# Altium schematic symbol library mb1045.SCHLIB: 70 symbols
Pins are listed as number, name and electrical type; pins without a type are passive.

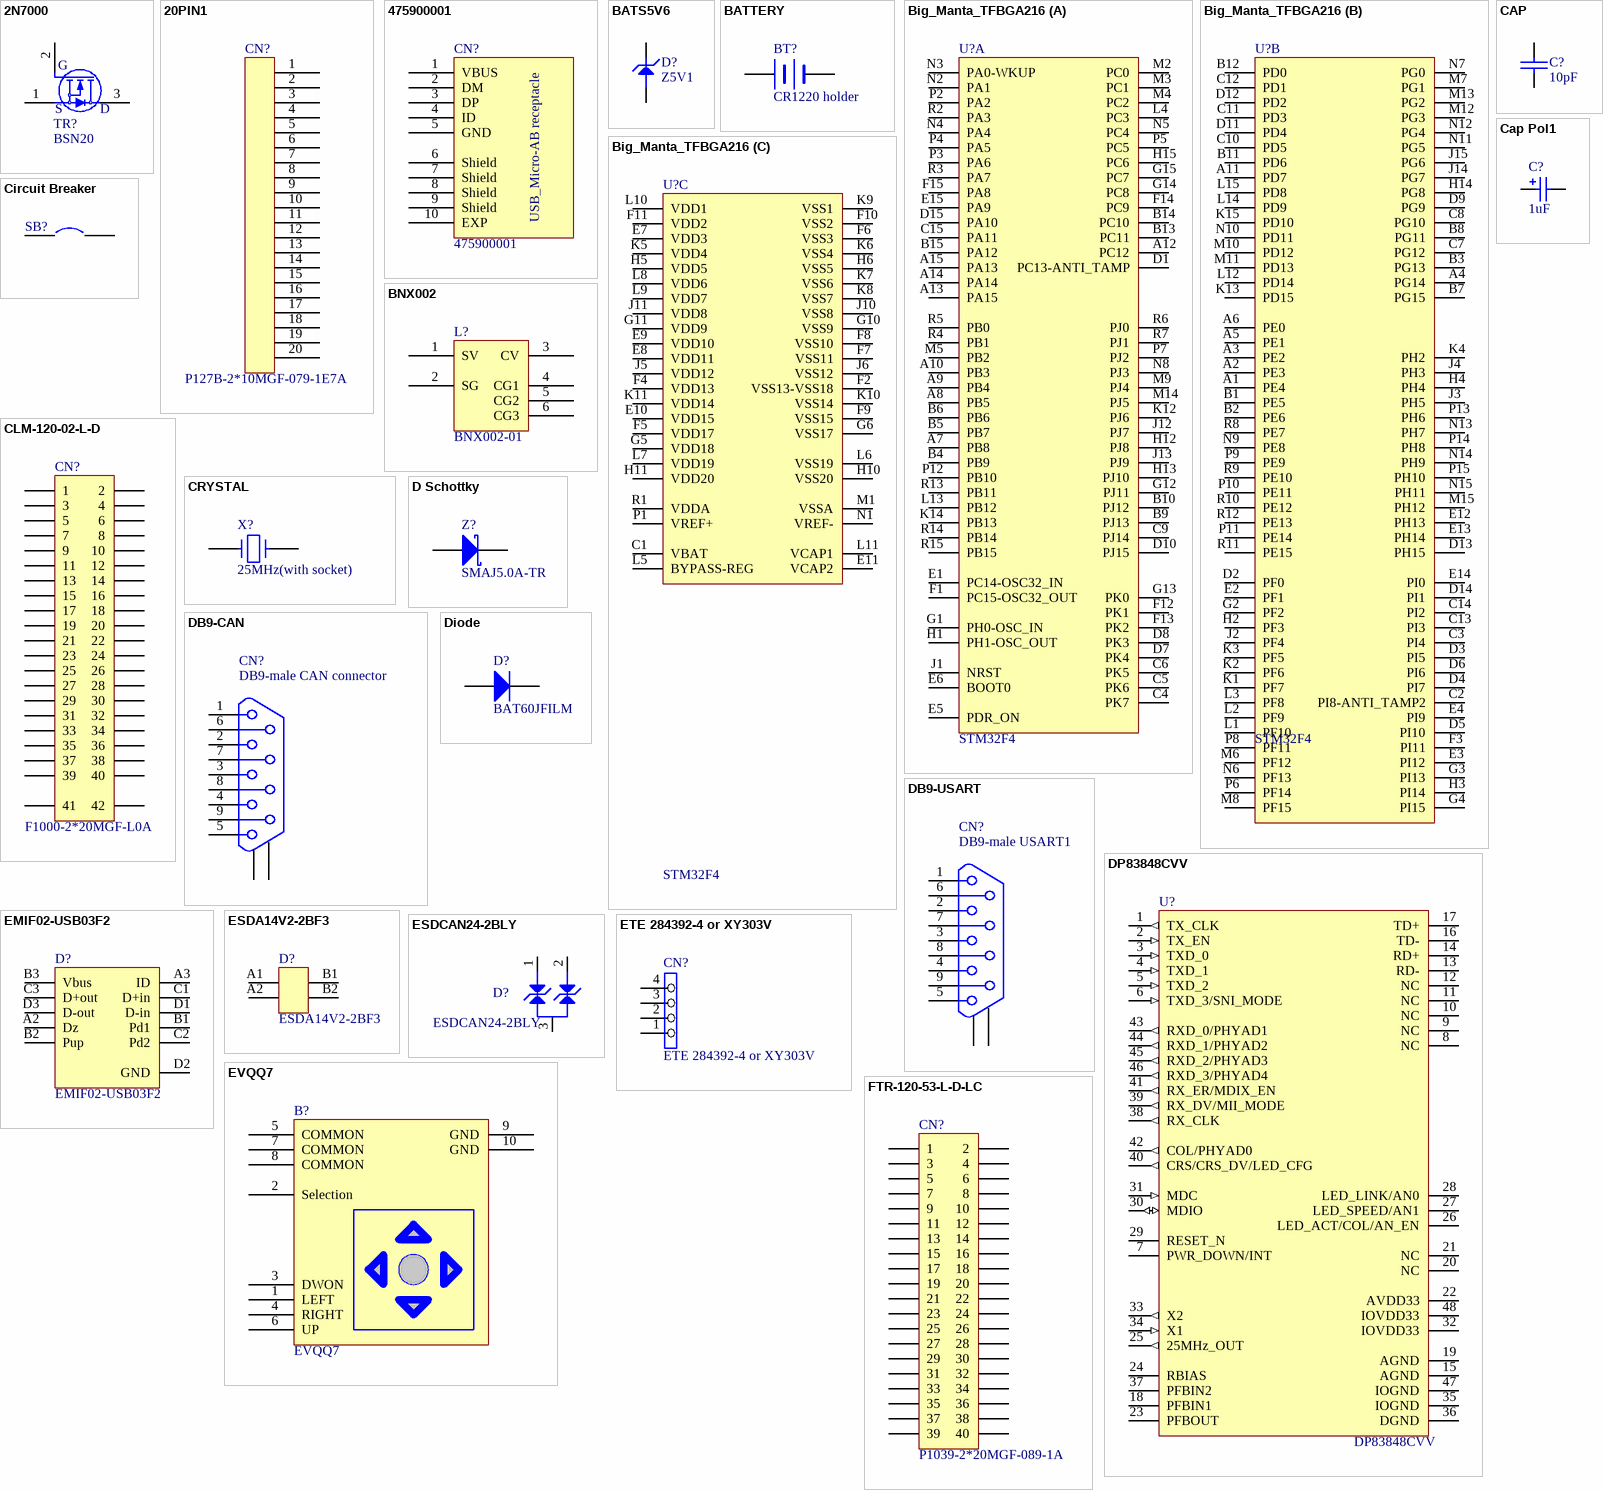
[diagram p0: symbols 2N7000 to FTR-120-53-L-D-LC]

## 2N7000
designator TR?, comment BSN20
footprint SOT23-3L (Footprint not found)
footprint SOT23-213 (Footprint not found)
pins: 1 S, 2 G, 3 D

## 20PIN1
designator CN?, comment P127B-2*10MGF-079-1E7A
footprint IDC20L (Footprint not found)
footprint IDC20S
footprint FTSH-110-01-L-DV
pins: 1, 2, 3, 4, 5, 6, 7, 8, 9, 10, 11, 12, 13, 14, 15, 16, 17, 18, 19, 20
2 alternate drawings of the same symbol

## 475900001
designator CN?
footprint Model Name (Footprint not found)
footprint MOLEX_47590001 (Footprint not found)
pins: 1 VBUS, 2 DM, 3 DP, 4 ID, 5 GND, 6 Shield, 7 Shield, 8 Shield, 9 Shield, 10 EXP
text: USB_Micro-AB receptacle

## BATS5V6
designator D?, comment Z5V1
footprint SOT-23
footprint SOT23-213 (Footprint not found)
pins: 2, 3

## BATTERY
designator BT?, comment CR1220 holder
Battery
footprint BATT (Footprint not found)
footprint LI1220_1
footprint BAT_2SM_CR1220 (Footprint not found)
pins: 1 +, 2 -
2 alternate drawings of the same symbol

## Big_Manta_TFBGA216
designator U?, comment STM32F4
footprint BGA216_0R8_13X13 (Footprint not found)
footprint BGA216_0R8_13X13_SKT (Footprint not found)
part A pins: A7 PB8, A8 PB5, A9 PB4, A10 PB3, A12 PC12, A13 PA15, A14 PA14, A15 PA13, B4 PB9, B5 PB7, B6 PB6, B9 PJ13, B10 PJ12, B13 PC11, B14 PC10, B15 PA12, C4 PK7, C5 PK6, C6 PK5, C9 PJ14, C15 PA11, D1 PC13-ANTI_TAMP, D7 PK4, D8 PK3, D10 PJ15, D15 PA10, E1 PC14-OSC32_IN, E5 PDR_ON, E6 BOOT0, E15 PA9, F1 PC15-OSC32_OUT, F12 PK1, F13 PK2, F14 PC9, F15 PA8, G1 PH0-OSC_IN, G12 PJ11, G13 PK0, G14 PC8, G15 PC7, H1 PH1-OSC_OUT, H12 PJ8, H13 PJ10, H15 PC6, J1 NRST, J12 PJ7, J13 PJ9, K12 PJ6, K14 PB13, L4 PC3, L13 PB12, M2 PC0, M3 PC1, M4 PC2, M5 PB2, M9 PJ4, M14 PJ5, N2 PA1, N3 PA0-WKUP, N4 PA4, N5 PC4, N8 PJ3, P2 PA2, P3 PA6, P4 PA5, P5 PC5, P7 PJ2, P12 PB10, R2 PA3, R3 PA7, R4 PB1, R5 PB0, R6 PJ0, R7 PJ1, R13 PB11, R14 PB14, R15 PB15
part B pins: A1 PE4, A2 PE3, A3 PE2, A4 PG14, A5 PE1, A6 PE0, A11 PD7, B1 PE5, B2 PE6, B3 PG13, B7 PG15, B8 PG11, B11 PD6, B12 PD0, C2 PI8-ANTI_TAMP2, C3 PI4, C7 PG12, C8 PG10, C10 PD5, C11 PD3, C12 PD1, C13 PI3, C14 PI2, D2 PF0, D3 PI5, D4 PI7, D5 PI10, D6 PI6, D9 PG9, D11 PD4, D12 PD2, D13 PH15, D14 PI1, E2 PF1, E3 PI12, E4 PI9, E12 PH13, E13 PH14, E14 PI0, F3 PI11, G2 PF2, G3 PI13, G4 PI15, H2 PF3, H3 PI14, H4 PH4, H14 PG8, J2 PF4, J3 PH5, J4 PH3, J14 PG7, J15 PG6, K1 PF7, K2 PF6, K3 PF5, K4 PH2, K13 PD15, K15 PD10, L1 PF10, L2 PF9, L3 PF8, L12 PD14, L14 PD9, L15 PD8, M6 PF12, M7 PG1, M8 PF15, M10 PD12, M11 PD13, M12 PG3, M13 PG2, M15 PH12, N6 PF13, N7 PG0, N9 PE8, N10 PD11, N11 PG5, N12 PG4, N13 PH7, N14 PH9, N15 PH11, P6 PF14, P8 PF11, P9 PE9, P10 PE11, P11 PE14, P13 PH6, P14 PH8, P15 PH10, R8 PE7, R9 PE10, R10 PE12, R11 PE15, R12 PE13
part C pins: C1 VBAT, E7 VDD3, E8 VDD11, E9 VDD10, E10 VDD15, E11 VCAP2, F2 VSS13-VSS18, F4 VDD13, F5 VDD17, F6 VSS3, F7 VSS11, F8 VSS10, F9 VSS15, F10 VSS2, F11 VDD2, G5 VDD18, G6 VSS17, G10 VSS9, G11 VDD9, H5 VDD5, H6 VSS5, H10 VSS20, H11 VDD20, J5 VDD12, J6 VSS12, J10 VSS8, J11 VDD8, K5 VDD4, K6 VSS4, K7 VSS6, K8 VSS7, K9 VSS1, K10 VSS14, K11 VDD14, L5 BYPASS-REG, L6 VSS19, L7 VDD19, L8 VDD6, L9 VDD7, L10 VDD1, L11 VCAP1, M1 VSSA, N1 VREF-, P1 VREF+, R1 VDDA
2 alternate drawings of the same symbol

## BNX002
designator L?, comment BNX002-01
footprint BNX001 (Footprint not found)
pins: 1 SV, 2 SG, 3 CV, 4 CG1, 5 CG2, 6 CG3

## CAP
designator C?, comment 10pF
Capacitor
footprint 0603 (Footprint not found)
footprint 0603C
pins: 1, 2

## Cap Pol1
designator C?, comment 1uF
Polarized Capacitor (Radial); Value: 10uF; Published: 8-Jun-2000; Revision: July-2002: Re-released for DXP Platform.; Publisher: Altium Limited
simulation model CAP (Capacitor)
signal-integrity model Cap Pol
footprint 3528 (Footprint not found)
footprint TAN-B
footprint TAN-A
pins: 1, 2

## Circuit Breaker
designator SB?
Circuit Breaker; Published: 24-Mar-1999; Revision: July-2002: Re-released for DXP Platform.; Publisher: Altium Limited
footprint SPST-2 (Circuit Breaker; 2 Leads)
footprint JP2_SMD
pins: 1, 2

## CLM-120-02-L-D
designator CN?, comment F1000-2*20MGF-L0A
Header, 20-Pin, Dual row; Revision: 17-Jul-2002: Re-released for DXP Platform.; Publisher: Altium Limited
footprint HDR2X20 (Connector; Header; 20x2 Position)
signal-integrity model Connector
footprint CLM-120-02-L-D
pins: 1, 2, 3, 4, 5, 6, 7, 8, 9, 10, 11, 12, 13, 14, 15, 16, 17, 18, 19, 20, 21, 22, 23, 24, 25, 26, 27, 28, 29, 30, 31, 32, 33, 34, 35, 36, 37, 38, 39, 40, 41, 42

## CRYSTAL
designator X?, comment 25MHz(with socket)
Crystal
footprint XTAL1 (Footprint not found)
footprint XTAL_socket
pins: 1, 2
2 alternate drawings of the same symbol

## D Schottky
designator Z?, comment SMAJ5.0A-TR
Schottky Diode; Code - JEDEC: DO-214-AA; Published: 8-Jun-2000; Revision: July-2002: Re-released for DXP Platform.; Publisher: Altium Limited
footprint 1R1C (Footprint not found)
footprint sma (Footprint not found)
pins: 1 A, 2 K

## DB9-CAN
designator CN?, comment DB9-male CAN connector
footprint DB9/M (Footprint not found)
pins: 1, 2, 3, 4, 5, 6, 7, 8, 9, 10, 11
2 alternate drawings of the same symbol

## DB9-USART
designator CN?, comment DB9-male USART1
footprint DB9/M (Footprint not found)
pins: 1, 2, 3, 4, 5, 6, 7, 8, 9, 10, 11
2 alternate drawings of the same symbol

## Diode
designator D?, comment BAT60JFILM
Default Diode; Code - JEDEC: DO-214-AB; Published: 8-Jun-2000; Revision: July-2002: Re-released for DXP Platform.; Publisher: Altium Limited
footprint DSO-C2/X3.3 (DO-214-AB/SMC; 2 C-Bend Leads; Body 7.9 x 5.9 mm, inc. leads (LxW))
simulation model DIODE (Diode)
signal-integrity model Diode
footprint SOD-323 (Footprint not found)
pins: 1 A, 2 K

## DP83848CVV
designator U?
footprint LQFP48 (Footprint not found)
footprint LQFP48_0R5_9X9 (Footprint not found)
pins: 1 TX_CLK (out), 2 TX_EN (in), 3 TXD_0 (in), 4 TXD_1 (in), 5 TXD_2 (in), 6 TXD_3/SNI_MODE (in), 7 PWR_DOWN/INT, 8 NC, 9 NC, 10 NC, 11 NC, 12 NC, 13 RD-, 14 RD+, 15 AGND, 16 TD-, 17 TD+, 18 PFBIN1, 19 AGND, 20 NC, 21 NC, 22 AVDD33, 23 PFBOUT, 24 RBIAS, 25 25MHz_OUT (out), 26 LED_ACT/COL/AN_EN, 27 LED_SPEED/AN1, 28 LED_LINK/AN0, 29 RESET_N, 30 MDIO (io), 31 MDC (in), 32 IOVDD33, 33 X2 (out), 34 X1 (in), 35 IOGND, 36 DGND, 37 PFBIN2, 38 RX_CLK (out), 39 RX_DV/MII_MODE (out), 40 CRS/CRS_DV/LED_CFG (out), 41 RX_ER/MDIX_EN (out), 42 COL/PHYAD0 (out), 43 RXD_0/PHYAD1 (out), 44 RXD_1/PHYAD2 (out), 45 RXD_2/PHYAD3 (out), 46 RXD_3/PHYAD4 (out), 47 IOGND, 48 IOVDD33

## EMIF02-USB03F2
designator D?
footprint Flip Chip (Footprint not found)
footprint FlipChip(11)
footprint BGA11_0R5_1R57X2R07 (Footprint not found)
pins: A2 Dz, A3 ID, B1 Pd1, B2 Pup, B3 Vbus, C1 D+in, C2 Pd2, C3 D+out, D1 D-in, D2 GND, D3 D-out

## ESDA14V2-2BF3
designator D?
footprint BGA4_0R4_0R8X0R8 (Footprint not found)
pins: A1, A2, B1, B2

## ESDCAN24-2BLY
designator D?
footprint SOT-23
footprint SOT23-213 (Footprint not found)
pins: 1, 2, 3

## ETE 284392-4 or XY303V
designator CN?
ETE 284392-4
footprint SIP4 3.81mm pitch (Footprint not found)
footprint BUCHANAN_284392-4 (Footprint not found)
pins: 1, 2, 3, 4

## EVQQ7
designator B?
footprint SW-JOY (Footprint not found)
pins: 1 LEFT, 2 Selection, 3 DWON, 4 RIGHT, 5 COMMON, 6 UP, 7 COMMON, 8 COMMON, 9 GND, 10 GND

## FTR-120-53-L-D-LC
designator CN?, comment P1039-2*20MGF-089-1A
Header, 20-Pin, Dual row; Revision: 17-Jul-2002: Re-released for DXP Platform.; Publisher: Altium Limited
footprint HDR2X20 (Connector; Header; 20x2 Position)
signal-integrity model Connector
footprint CLM-120-02-L-D
footprint FTR-120-53-L-D-LC (Footprint not found)
pins: 1, 2, 3, 4, 5, 6, 7, 8, 9, 10, 11, 12, 13, 14, 15, 16, 17, 18, 19, 20, 21, 22, 23, 24, 25, 26, 27, 28, 29, 30, 31, 32, 33, 34, 35, 36, 37, 38, 39, 40

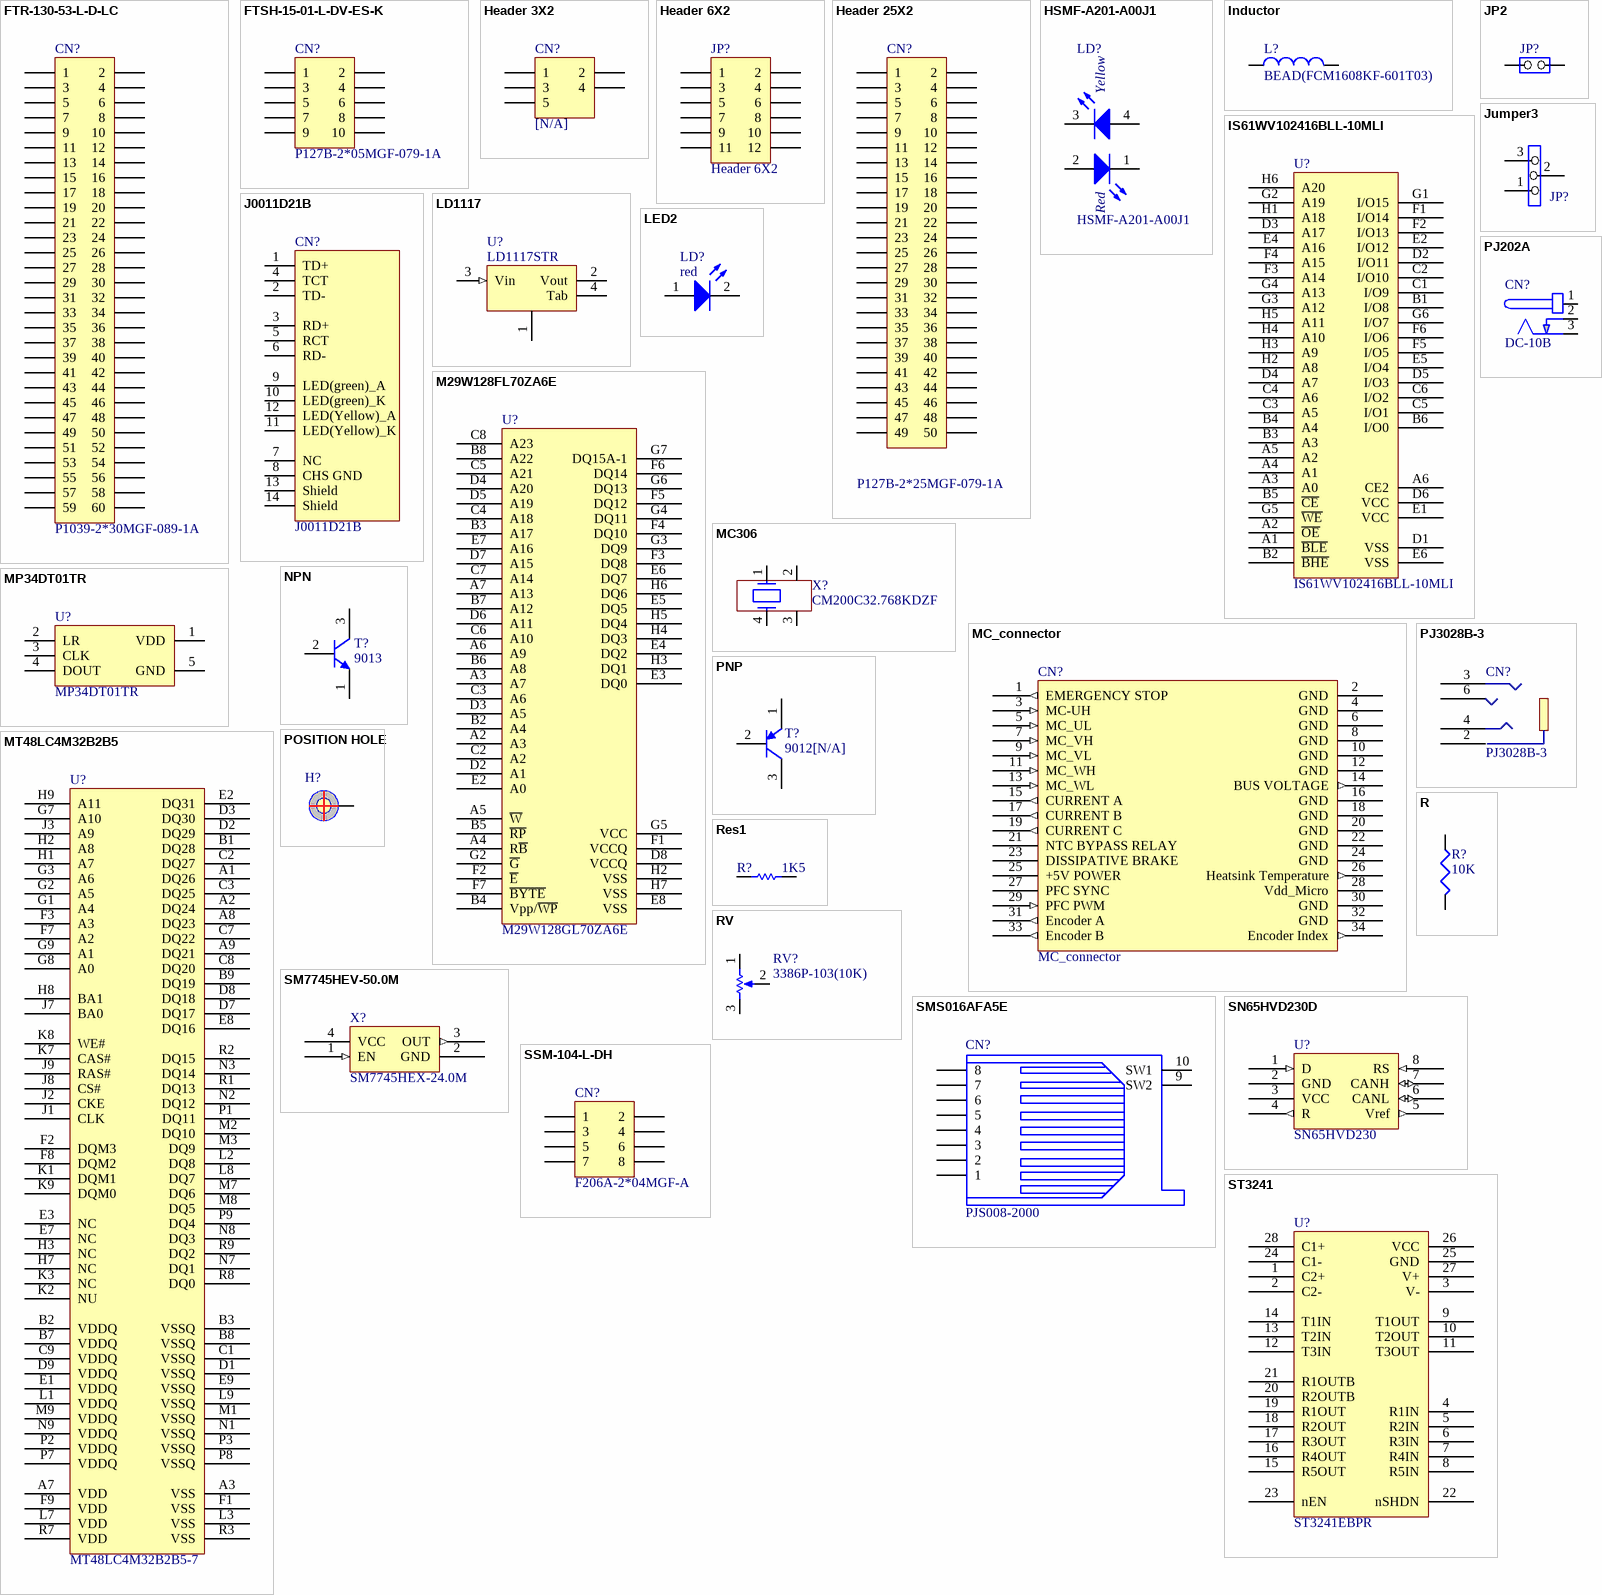
[diagram p1: symbols FTR-130-53-L-D-LC to ST3241]

## FTR-130-53-L-D-LC
designator CN?, comment P1039-2*30MGF-089-1A
Header, 40-Pin, Dual row; Revision: 17-Jul-2002: Re-released for DXP Platform.; Publisher: Altium Limited
signal-integrity model Connector
footprint 2*30 SMT 1.27mm (Footprint not found)
footprint FTR-130-53-L-D-LC (Footprint not found)
pins: 1, 2, 3, 4, 5, 6, 7, 8, 9, 10, 11, 12, 13, 14, 15, 16, 17, 18, 19, 20, 21, 22, 23, 24, 25, 26, 27, 28, 29, 30, 31, 32, 33, 34, 35, 36, 37, 38, 39, 40, 41, 42, 43, 44, 45, 46, 47, 48, 49, 50, 51, 52, 53, 54, 55, 56, 57, 58, 59, 60
1 alternate drawing of the same symbol

## FTSH-15-01-L-DV-ES-K
designator CN?, comment P127B-2*05MGF-079-1A
Header, 5-Pin, Dual row; Revision: 17-Jul-2002: Re-released for DXP Platform.; Publisher: Altium Limited
footprint FTSH-105-01-L-DV-K (Footprint not found)
pins: 1, 2, 3, 4, 5, 6, 7, 8, 9, 10

## Header 3X2
designator CN?, comment [N/A]
Header, 3-Pin, Dual row; Revision: 17-Jul-2002: Re-released for DXP Platform.; Publisher: Altium Limited
footprint HDR2X3 (Connector; Header; 3x2 Position)
signal-integrity model Connector
footprint 2*3P
footprint HDR_2X3-1_2R54-6 (Footprint not found)
pins: 1, 2, 3, 4, 5

## Header 6X2
designator JP?
Header, 6-Pin, Dual row; Revision: 17-Jul-2002: Re-released for DXP Platform.; Publisher: Altium Limited
footprint HDR2X6 (Footprint not found)
signal-integrity model Connector
footprint HDR_2X6_2R54 (Footprint not found)
pins: 1, 2, 3, 4, 5, 6, 7, 8, 9, 10, 11, 12

## Header 25X2
designator CN?, comment P127B-2*25MGF-079-1A
Header, 26-Pin, Dual row; Revision: 17-Jul-2002: Re-released for DXP Platform.; Publisher: Altium Limited
signal-integrity model Connector
footprint 2*25 SMT 1.27mm (Footprint not found)
footprint FTSH-125-01-F-DV (Footprint not found)
pins: 1, 2, 3, 4, 5, 6, 7, 8, 9, 10, 11, 12, 13, 14, 15, 16, 17, 18, 19, 20, 21, 22, 23, 24, 25, 26, 27, 28, 29, 30, 31, 32, 33, 34, 35, 36, 37, 38, 39, 40, 41, 42, 43, 44, 45, 46, 47, 48, 49, 50

## HSMF-A201-A00J1
designator LD?
footprint led (Footprint not found)
footprint LED2-28*32
footprint LED2_3528 (Footprint not found)
pins: 1 RED_cathode, 2 Red_anode, 3 YellowGreen_cathode, 4 YellowGreen_anode
text: Yellow; Red

## Inductor
designator L?, comment BEAD(FCM1608KF-601T03)
Inductor; Value: 100uH; Published: 8-Jun-2000; Revision: July-2002: Re-released for DXP Platform.; Publisher: Altium Limited
footprint 0603 (Footprint not found)
footprint 0603C
footprint 0603L
pins: 1, 2

## IS61WV102416BLL-10MLI
designator U?
footprint miniBAG48(9x11) (Footprint not found)
footprint BGA48_0R75_9X11 (Footprint not found)
pins: A1 ~{BLE}, A2 ~{OE}, A3 A0, A4 A1, A5 A2, A6 CE2, B1 I/O8, B2 ~{BHE}, B3 A3, B4 A4, B5 ~{CE}, B6 I/O0, C1 I/O9, C2 I/O10, C3 A5, C4 A6, C5 I/O1, C6 I/O2, D1 VSS, D2 I/O11, D3 A17, D4 A7, D5 I/O3, D6 VCC, E1 VCC, E2 I/O12, E4 A16, E5 I/O4, E6 VSS, F1 I/O14, F2 I/O13, F3 A14, F4 A15, F5 I/O5, F6 I/O6, G1 I/O15, G2 A19, G3 A12, G4 A13, G5 ~{WE}, G6 I/O7, H1 A18, H2 A8, H3 A9, H4 A10, H5 A11, H6 A20

## J0011D21B
designator CN?
footprint Model Name (Footprint not found)
footprint J0011D21B
footprint RJ45_J0011D01BNL (Footprint not found)
pins: 1 TD+, 2 TD-, 3 RD+, 4 TCT, 5 RCT, 6 RD-, 7 NC, 8 CHS GND, 9 LED(green)_A, 10 LED(green)_K, 11 LED(Yellow)_K, 12 LED(Yellow)_A, 13 Shield, 14 Shield

## JP2
designator JP?
footprint SIP2 (Footprint not found)
pins: 1 COMMON, 2 NO

## Jumper3
designator JP?
footprint SIP3 (Footprint not found)
pins: 1, 2, 3

## LD1117
designator U?, comment LD1117STR
footprint SOT-223
pins: 1, 2 Vout (power), 3 Vin (in), 4 Tab (power)
2 alternate drawings of the same symbol

## LED2
designator LD?, comment red
Typical RED, GREEN, YELLOW, AMBER GaAs LED; Published: 8-Jun-2000; Revision: July-2002: Re-released for DXP Platform.; Publisher: Altium Limited
footprint D0603 (Footprint not found)
footprint 0603D
pins: 1 A, 2 K

## M29W128FL70ZA6E
designator U?, comment M29W128GL70ZA6E
footprint TBGA64(10x13) (Footprint not found)
footprint BGA64_1_10X13 (Footprint not found)
pins: A2 A3, A3 A7, A4 R~{B}, A5 ~{W}, A6 A9, A7 A13, B2 A4, B3 A17, B4 Vpp/~{WP}, B5 ~{RP}, B6 A8, B7 A12, B8 A22, C2 A2, C3 A6, C4 A18, C5 A21, C6 A10, C7 A14, C8 A23, D2 A1, D3 A5, D4 A20, D5 A19, D6 A11, D7 A15, D8 VCCQ, E2 A0, E3 DQ0, E4 DQ2, E5 DQ5, E6 DQ7, E7 A16, E8 VSS, F1 VCCQ, F2 ~{E}, F3 DQ8, F4 DQ10, F5 DQ12, F6 DQ14, F7 ~{BYTE}, G2 ~{G}, G3 DQ9, G4 DQ11, G5 VCC, G6 DQ13, G7 DQ15A-1, H2 VSS, H3 DQ1, H4 DQ3, H5 DQ4, H6 DQ6, H7 VSS

## MC306
designator X?, comment CM200C32.768KDZF
footprint SM8 (Footprint not found)
footprint XTAL_4SM_8X3R8 (Footprint not found)
pins: 1, 2, 3, 4

## MC_connector
designator CN?
footprint IDC34S (Footprint not found)
pins: 1 EMERGENCY STOP (out), 2 GND (power), 3 MC-UH (in), 4 GND (power), 5 MC_UL (in), 6 GND (power), 7 MC_VH (in), 8 GND (power), 9 MC_VL (in), 10 GND (power), 11 MC_WH (in), 12 GND (power), 13 MC_WL (in), 14 BUS VOLTAGE (out), 15 CURRENT A (out), 16 GND (power), 17 CURRENT B (out), 18 GND (power), 19 CURRENT C (out), 20 GND (power), 21 NTC BYPASS RELAY, 22 GND (power), 23 DISSIPATIVE BRAKE, 24 GND (power), 25 +5V POWER (power), 26 Heatsink Temperature (out), 27 PFC SYNC, 28 Vdd_Micro (power), 29 PFC PWM (in), 30 GND (power), 31 Encoder A (out), 32 GND (power), 33 Encoder B (out), 34 Encoder Index (out)

## MP34DT01TR
designator U?
MEMS audio sensor; Revision: 17-Jul-2002: Re-released for DXP Platform.; Publisher: Altium Limited
footprint HCLGA-4LD (Footprint not found)
footprint MP34DT01TR (Footprint not found)
pins: 1 VDD, 2 LR, 3 CLK, 4 DOUT, 5 GND

## MT48LC4M32B2B5
designator U?, comment MT48LC4M32B2B5-7
footprint FBGA90_0R8_8X13 (Footprint not found)
pins: A1 DQ26, A2 DQ24, A3 VSS, A7 VDD, A8 DQ23, A9 DQ21, B1 DQ28, B2 VDDQ, B3 VSSQ, B7 VDDQ, B8 VSSQ, B9 DQ19, C1 VSSQ, C2 DQ27, C3 DQ25, C7 DQ22, C8 DQ20, C9 VDDQ, D1 VSSQ, D2 DQ29, D3 DQ30, D7 DQ17, D8 DQ18, D9 VDDQ, E1 VDDQ, E2 DQ31, E3 NC, E7 NC, E8 DQ16, E9 VSSQ, F1 VSS, F2 DQM3, F3 A3, F7 A2, F8 DQM2, F9 VDD, G1 A4, G2 A5, G3 A6, G7 A10, G8 A0, G9 A1, H1 A7, H2 A8, H3 NC, H7 NC, H8 BA1, H9 A11, J1 CLK, J2 CKE, J3 A9, J7 BA0, J8 CS#, J9 RAS#, K1 DQM1, K2 NU, K3 NC, K7 CAS#, K8 WE#, K9 DQM0, L1 VDDQ, L2 DQ8, L3 VSS, L7 VDD, L8 DQ7, L9 VSSQ, M1 VSSQ, M2 DQ10, M3 DQ9, M7 DQ6, M8 DQ5, M9 VDDQ, N1 VSSQ, N2 DQ12, N3 DQ14, N7 DQ1, N8 DQ3, N9 VDDQ, P1 DQ11, P2 VDDQ, P3 VSSQ, P7 VDDQ, P8 VSSQ, P9 DQ4, R1 DQ13, R2 DQ15, R3 VSS, R7 VDD, R8 DQ0, R9 DQ2

## NPN
designator T?, comment 9013
NPN Bipolar Transistor; Code - JEDEC: TO-226-AA; Published: 8-Jun-2000; Revision: July-2002: Re-released for DXP Platform.; Publisher: Altium Limited
footprint BCY-W3 (TO, Flat Index; 3 In-Line, Axial Leads; Body Dia. 4.8mm)
simulation model NPN
signal-integrity model NPN
footprint SOT-23
footprint SOT23-213 (Footprint not found)
pins: 1 E, 2 B, 3 C

## PJ202A
designator CN?, comment DC-10B
footprint DC10B (Footprint not found)
footprint PWR_JACK_DC10 (Footprint not found)
pins: 1 +, 2 GND, 3 GND

## PJ3028B-3
designator CN?
footprint PJ3028B (Footprint not found)
pins: 2, 3, 4, 6

## PNP
designator T?, comment 9012[N/A]
PNP Bipolar Transistor; Code - JEDEC: SOT-23; Published: 8-Jun-2000; Revision: July-2002: Re-released for DXP Platform.; Publisher: Altium Limited
footprint SO-G3/C2.5 (SOT-23; 3 Leads; Body 3.0 x 2.6 mm, inc. leads (LxW max))
simulation model PNP
signal-integrity model PNP
footprint SOT23-213 (Footprint not found)
pins: 1 E, 2 B, 3 C

## POSITION HOLE
designator H?
footprint HOLE_C9D4R5 (Footprint not found)
pins: 1

## R
designator R?, comment 10K
Right: 20; Bottom: 30
footprint 0603 (Footprint not found)
footprint 0402R
footprint 0603R
pins: 1, 2
2 alternate drawings of the same symbol

## Res1
designator R?, comment 1K5
Resistor; Value: 1K; Published: 8-Jun-2000; Revision: July-2002: Re-released for DXP Platform.; Publisher: Altium Limited
footprint AXIAL-0.3 (Resistor; 2 Leads)
simulation model RESISTOR (Resistor)
signal-integrity model Res
footprint 0603
footprint 0603R
pins: 1, 2
1 alternate drawing of the same symbol

## RV
designator RV?, comment 3386P-103(10K)
footprint ADJRH (Footprint not found)
footprint 3296W
footprint 3386P (Footprint not found)
pins: 1 BOT, 2 TAP, 3 TOP

## SM7745HEV-50.0M
designator X?, comment SM7745HEX-24.0M
footprint Model Name (Footprint not found)
footprint XTAL_5X7
footprint OSC_4SM_7X5 (Footprint not found)
pins: 1 EN (in), 2 GND, 3 OUT (out), 4 VCC

## SMS016AFA5E
designator CN?, comment PJS008-2000
footprint MSD(PJS008) (Footprint not found)
pins: 1, 2, 3, 4, 5, 6, 7, 8, 9 SW2, 10 SW1

## SN65HVD230D
designator U?, comment SN65HVD230
footprint SO8 (Small Outline; 8 Leads; Body Width 3.9 mm; Pitch 1.27 mm)
footprint SOIC8_1R27_4R9X6 (Footprint not found)
pins: 1 D (in), 2 GND (power), 3 VCC (power), 4 R (out), 5 Vref (out), 6 CANL (io), 7 CANH (io), 8 RS (in)

## SSM-104-L-DH
designator CN?, comment F206A-2*04MGF-A
Header, 5-Pin, Dual row; Revision: 17-Jul-2002: Re-released for DXP Platform.; Publisher: Altium Limited
footprint SSM-104-L-DH (Footprint not found)
pins: 1, 2, 3, 4, 5, 6, 7, 8

## ST3241
designator U?, comment ST3241EBPR
footprint SSOP28_0R65_10R2X7R8 (Footprint not found)
pins: 1 C2+, 2 C2-, 3 V-, 4 R1IN, 5 R2IN, 6 R3IN, 7 R4IN, 8 R5IN, 9 T1OUT, 10 T2OUT, 11 T3OUT, 12 T3IN, 13 T2IN, 14 T1IN, 15 R5OUT, 16 R4OUT, 17 R3OUT, 18 R2OUT, 19 R1OUT, 20 R2OUTB, 21 R1OUTB, 22 nSHDN, 23 nEN, 24 C1-, 25 GND, 26 VCC, 27 V+, 28 C1+
2 alternate drawings of the same symbol

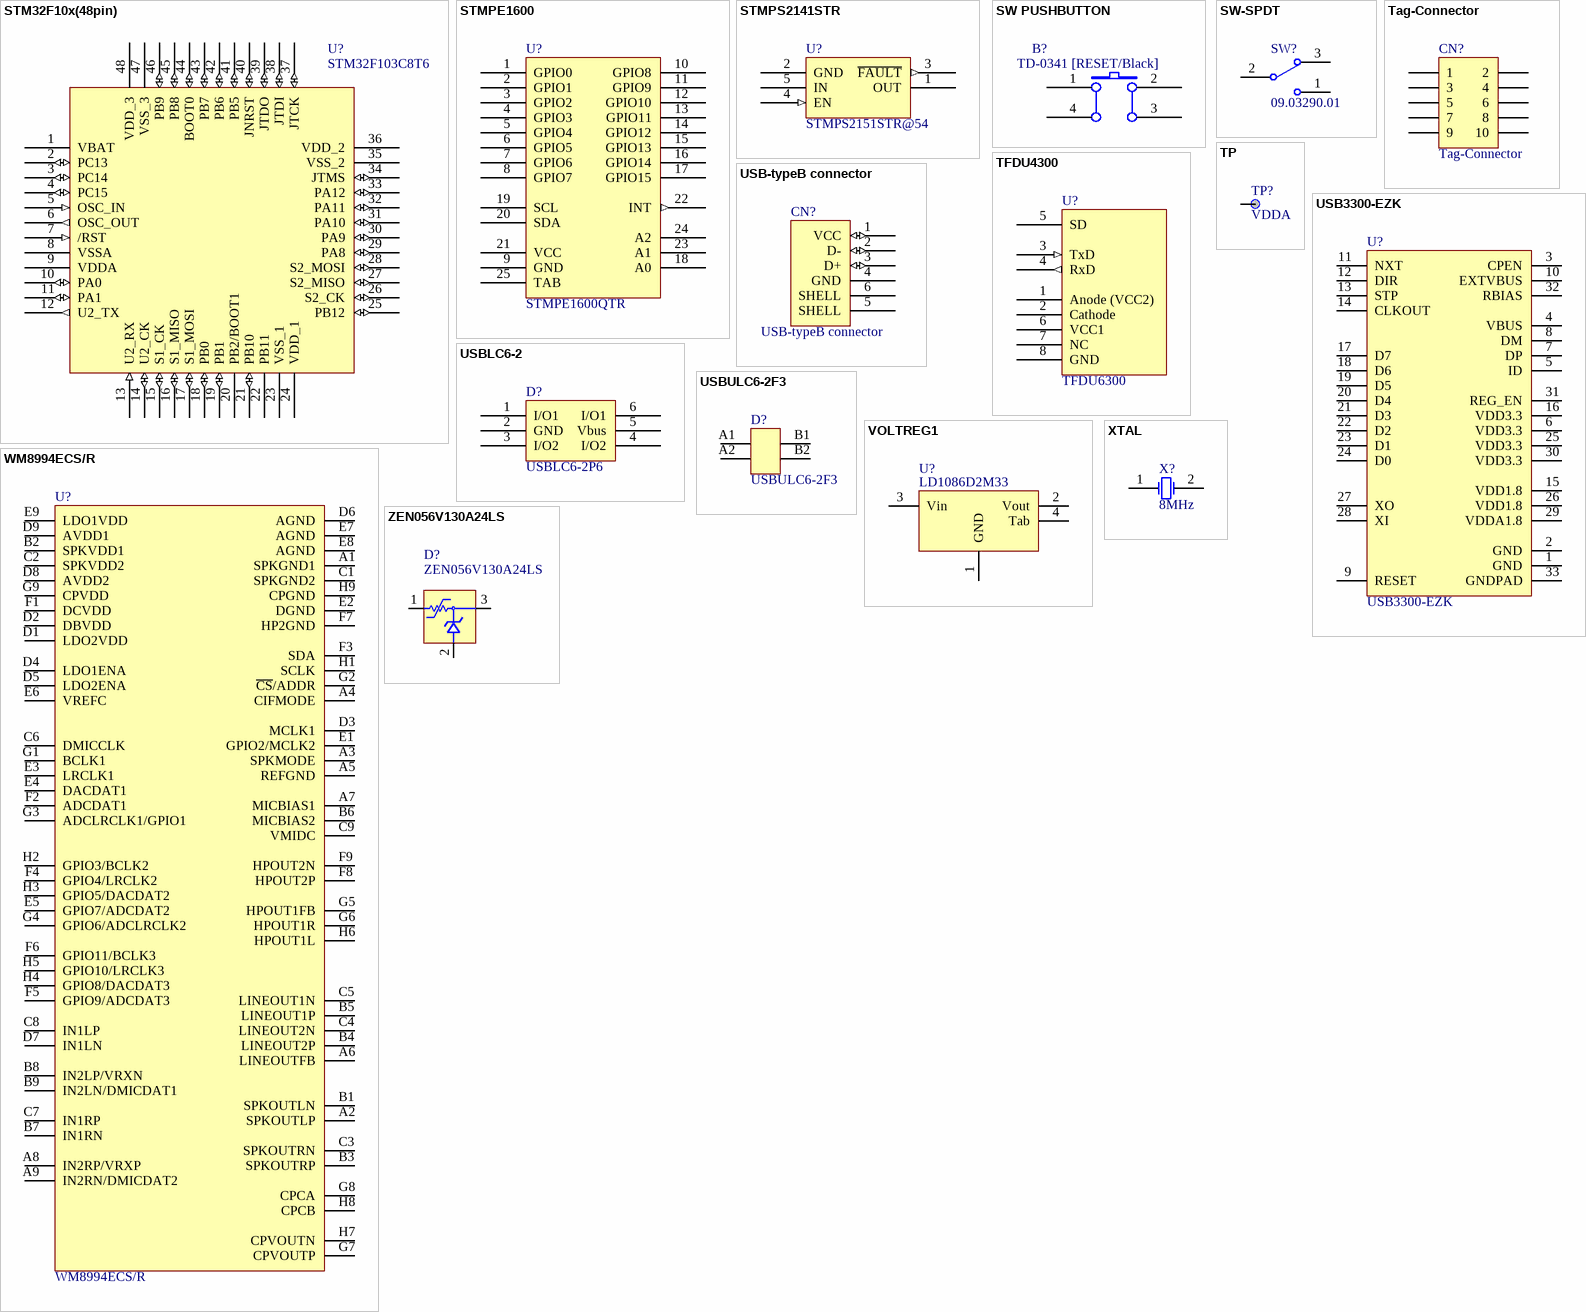
[diagram p2: symbols STM32F10x(48pin) to ZEN056V130A24LS]

## STM32F10x(48pin)
designator U?, comment STM32F103C8T6
footprint TQ48
footprint LQFP48
footprint LQFP48_0R5_9X9 (Footprint not found)
pins: 1 VBAT (power), 2 PC13 (io), 3 PC14 (io), 4 PC15 (io), 5 OSC_IN (in), 6 OSC_OUT (out), 7 /RST (in), 8 VSSA, 9 VDDA (power), 10 PA0 (io), 11 PA1 (io), 12 U2_TX (out), 13 U2_RX (in), 14 U2_CK (io), 15 S1_CK (io), 16 S1_MISO (io), 17 S1_MOSI (io), 18 PB0 (io), 19 PB1 (io), 20 PB2/BOOT1, 21 PB10 (io), 22 PB11, 23 VSS_1, 24 VDD_1 (power), 25 PB12 (io), 26 S2_CK (io), 27 S2_MISO (io), 28 S2_MOSI (io), 29 PA8 (io), 30 PA9 (io), 31 PA10 (io), 32 PA11 (io), 33 PA12 (io), 34 JTMS (io), 35 VSS_2, 36 VDD_2 (power), 37 JTCK (io), 38 JTDI (io), 39 JTDO (io), 40 JNRST (io), 41 PB5 (io), 42 PB6 (io), 43 PB7 (io), 44 BOOT0 (io), 45 PB8 (io), 46 PB9 (io), 47 VSS_3, 48 VDD_3 (power)
2 alternate drawings of the same symbol

## STMPE1600
designator U?, comment STMPE1600QTR
footprint QFN16 (Footprint not found)
footprint QFN24(4X4) (Footprint not found)
footprint QFN24_0R5_4X4 (Footprint not found)
pins: 1 GPIO0, 2 GPIO1, 3 GPIO2, 4 GPIO3, 5 GPIO4, 6 GPIO5, 7 GPIO6, 8 GPIO7, 9 GND, 10 GPIO8, 11 GPIO9, 12 GPIO10, 13 GPIO11, 14 GPIO12, 15 GPIO13, 16 GPIO14, 17 GPIO15, 18 A0, 19 SCL, 20 SDA, 21 VCC, 22 INT (out), 23 A1, 24 A2, 25 TAB

## STMPS2141STR
designator U?, comment STMPS2151STR@54
footprint SOT23-5L (Footprint not found)
footprint SOT-23-5L
footprint SOT23-5 (Footprint not found)
pins: 1 OUT, 2 GND, 3 ~{FAULT} (out), 4 EN (in), 5 IN

## SW PUSHBUTTON
designator B?, comment TD-0341 [RESET/Black]
SE PUSHBUTTON
footprint PB (Footprint not found)
footprint PB10
pins: 1 A0, 2 B0, 3 B1, 4 A1

## SW-SPDT
designator SW?, comment 09.03290.01
SPDT Subminiature Toggle Switch, Right Angle Mounting, Vertical Actuation; Revision 1: Jul-2002: Re-released for DXP Platform.; Revision 2: 17-Dec-2003: Schematic revised, PCB Footprint replaced.; Published: 24-Mar-1999; Datasheet: Latest Revision: 05-Dec-2000; Publisher: Altium Limited
footprint SIP3 (Footprint not found)
footprint SW1_3TH_2R54_10X2R5 (Footprint not found)
pins: 1, 2, 3

## Tag-Connector
designator CN?
Header, 6-Pin, Dual row; Revision: 17-Jul-2002: Re-released for DXP Platform.; Publisher: Altium Limited
footprint HDR2X6 (Footprint not found)
signal-integrity model Connector
footprint TC2050-IDC-FP (Footprint not found)
pins: 1, 2, 3, 4, 5, 6, 7, 8, 9, 10

## TFDU4300
designator U?, comment TFDU6300
TFDU4300
footprint IR_VISHAY3 (Footprint not found)
pins: 1 Anode (VCC2), 2 Cathode, 3 TxD (in), 4 RxD (out), 5 SD, 6 VCC1, 7 NC, 8 GND
2 alternate drawings of the same symbol

## TP
designator TP?, comment VDDA
footprint TP (Footprint not found)
pins: 1

## USB3300-EZK
designator U?
footprint QFN32_0R5_5X5 (Footprint not found)
pins: 1 GND, 2 GND, 3 CPEN, 4 VBUS, 5 ID, 6 VDD3.3, 7 DP, 8 DM, 9 RESET, 10 EXTVBUS, 11 NXT, 12 DIR, 13 STP, 14 CLKOUT, 15 VDD1.8, 16 VDD3.3, 17 D7, 18 D6, 19 D5, 20 D4, 21 D3, 22 D2, 23 D1, 24 D0, 25 VDD3.3, 26 VDD1.8, 27 XO, 28 XI, 29 VDDA1.8, 30 VDD3.3, 31 REG_EN, 32 RBIAS, 33 GNDPAD

## USB-typeB connector
designator CN?
footprint USB/B MINI
footprint USB-B
pins: 1 VCC (io), 2 D- (io), 3 D+ (io), 4 GND, 5 SHELL (power), 6 SHELL (power)
2 alternate drawings of the same symbol

## USBLC6-2
designator D?, comment USBLC6-2P6
footprint SOT-666 (Footprint not found)
footprint SOT-563 (Footprint not found)
pins: 1 I/O1, 2 GND, 3 I/O2, 4 I/O2, 5 Vbus, 6 I/O1

## USBULC6-2F3
designator D?
footprint BGA4_0R4_1X1 (Footprint not found)
pins: A1, A2, B1, B2

## VOLTREG1
designator U?, comment LD1086D2M33
footprint D2PAK/A (Footprint not found)
footprint TO263-3 (Footprint not found)
pins: 1 GND, 2 Vout, 3 Vin, 4 Tab
2 alternate drawings of the same symbol

## WM8994ECS/R
designator U?
footprint BGA72-WCSP (Footprint not found)
footprint BGA72_0R5_4R5X4 (Footprint not found)
pins: A1 SPKGND1, A2 SPKOUTLP, A3 SPKMODE, A4 CIFMODE, A5 REFGND, A6 LINEOUTFB, A7 MICBIAS1, A8 IN2RP/VRXP, A9 IN2RN/DMICDAT2, B1 SPKOUTLN, B2 SPKVDD1, B3 SPKOUTRP, B4 LINEOUT2P, B5 LINEOUT1P, B6 MICBIAS2, B7 IN1RN, B8 IN2LP/VRXN, B9 IN2LN/DMICDAT1, C1 SPKGND2, C2 SPKVDD2, C3 SPKOUTRN, C4 LINEOUT2N, C5 LINEOUT1N, C6 DMICCLK, C7 IN1RP, C8 IN1LP, C9 VMIDC, D1 LDO2VDD, D2 DBVDD, D3 MCLK1, D4 LDO1ENA, D5 LDO2ENA, D6 AGND, D7 IN1LN, D8 AVDD2, D9 AVDD1, E1 GPIO2/MCLK2, E2 DGND, E3 LRCLK1, E4 DACDAT1, E5 GPIO7/ADCDAT2, E6 VREFC, E7 AGND, E8 AGND, E9 LDO1VDD, F1 DCVDD, F2 ADCDAT1, F3 SDA, F4 GPIO4/LRCLK2, F5 GPIO9/ADCDAT3, F6 GPIO11/BCLK3, F7 HP2GND, F8 HPOUT2P, F9 HPOUT2N, G1 BCLK1, G2 ~{CS}/ADDR, G3 ADCLRCLK1/GPIO1, G4 GPIO6/ADCLRCLK2, G5 HPOUT1FB, G6 HPOUT1R, G7 CPVOUTP, G8 CPCA, G9 CPVDD, H1 SCLK, H2 GPIO3/BCLK2, H3 GPIO5/DACDAT2, H4 GPIO8/DACDAT3, H5 GPIO10/LRCLK3, H6 HPOUT1L, H7 CPVOUTN, H8 CPCB, H9 CPGND

## XTAL
designator X?, comment 8MHz
Crystal Oscillator; Published: 8-Jun-2000; LatestRevisionDate: 17-Jul-2002; LatestRevisionNote: Re-released for DXP Platform.; PackageReference: R38; Publisher: Altium Limited
footprint R38
footprint XTAL1
footprint SMT_XTAL
footprint XTAL_2SM_12R7X4R7 (Footprint not found)
pins: 1 OSC1, 2 OSC2
2 alternate drawings of the same symbol

## ZEN056V130A24LS
designator D?
footprint polyzen (Footprint not found)
footprint TYCO_ZEN056V130A24LS (Footprint not found)
pins: 1, 2, 3